# Altium schematic symbol library 电源模块.SchLib: 1 symbol
Pins are listed as number, name and electrical type; pins without a type are passive.

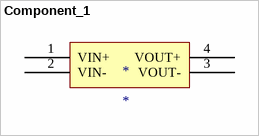
[diagram p0: symbol Component_1]

## Component_1
designator *
pins: 1 VIN+, 2 VIN-, 3 VOUT-, 4 VOUT+